# EAGLE library part RESISTOR_ARRAY_8 (library untitled)
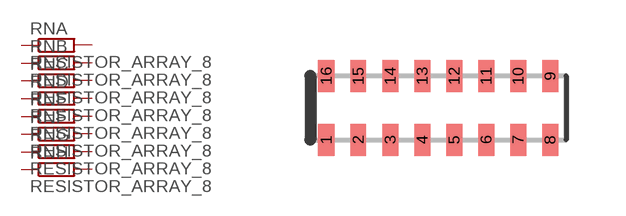
[diagram p21: symbol with the pads of CAT16-F8/CAT16-J8; footprint CAT16-F8/CAT16-J8]

Designator prefix RN; gates A=RESISTOR B=RESISTOR C=RESISTOR D=RESISTOR E=RESISTOR F=RESISTOR G=RESISTOR H=RESISTOR

## RESISTOR_ARRAY_8  [CAT16-F8/CAT16-J8]
1  A:1  pas
2  B:1  pas
3  C:1  pas
4  D:1  pas
5  E:1  pas
6  F:1  pas
7  G:1  pas
8  H:1  pas
9  H:2  pas
10  G:2  pas
11  F:2  pas
12  E:2  pas
13  D:2  pas
14  C:2  pas
15  B:2  pas
16  A:2  pas

## Footprint CAT16-F8/CAT16-J8 (pad centres in mm)
smd 0.4 x 0.8: 1 -2.4,-0.8; 2 -1.6,-0.8; 3 -0.8,-0.8; 4 0,-0.8; 5 0.8,-0.8; 6 1.6,-0.8; 7 2.4,-0.8; 8 3.2,-0.8; 9 3.2,0.8; 10 2.4,0.8; 11 1.6,0.8; 12 0.8,0.8; 13 0,0.8; 14 -0.8,0.8; 15 -1.6,0.8; 16 -2.4,0.8